# EAGLE library part TC1165 (library micro-infineon)
32-Bit Single-Chip MicrocontrollerTriCoreTM Source: TC1165_TC1166_ds_v02.pdf
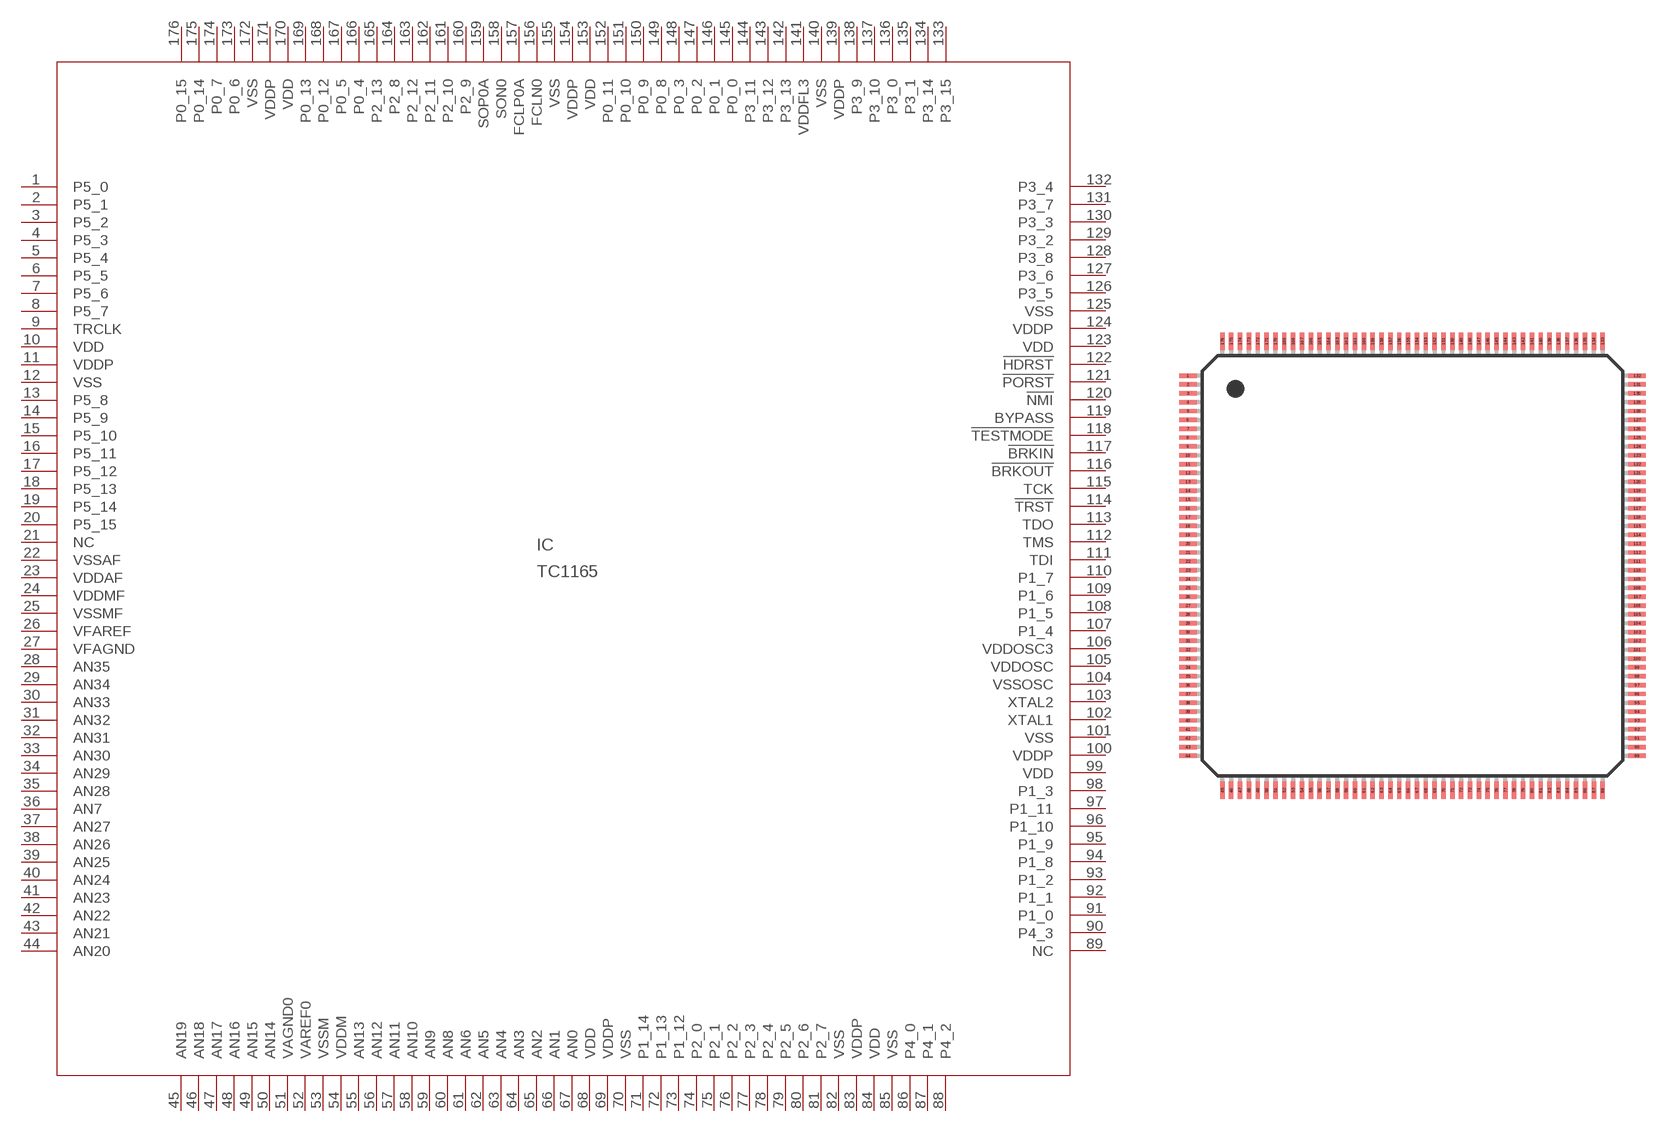
[diagram p0: symbol with the pads of PG-LQFP-176-2; footprint PG-LQFP-176-2]

Designator prefix IC

## TC1165  [PG-LQFP-176-2]
1  P5_0
2  P5_1
3  P5_2
4  P5_3
5  P5_4
6  P5_5
7  P5_6
8  P5_7
9  TRCLK  out
10  VDD  pwr
11  VDDP  pwr
12  VSS  pwr
13  P5_8
14  P5_9
15  P5_10
16  P5_11
17  P5_12
18  P5_13
19  P5_14
20  P5_15
21  NC  nc
22  VSSAF  pwr
23  VDDAF  pwr
24  VDDMF  pwr
25  VSSMF  pwr
26  VFAREF  pwr
27  VFAGND  pwr
28  AN35  in
29  AN34  in
30  AN33  in
31  AN32  in
32  AN31  in
33  AN30  in
34  AN29  in
35  AN28  in
36  AN7  in
37  AN27  in
38  AN26  in
39  AN25  in
40  AN24  in
41  AN23  in
42  AN22  in
43  AN21  in
44  AN20  in
45  AN19  in
46  AN18  in
47  AN17  in
48  AN16  in
49  AN15  in
50  AN14  in
51  VAGND0  pwr
52  VAREF0  pwr
53  VSSM  pwr
54  VDDM  pwr
55  AN13  in
56  AN12  in
57  AN11  in
58  AN10  in
59  AN9  in
60  AN8  in
61  AN6  in
62  AN5  in
63  AN4  in
64  AN3  in
65  AN2  in
66  AN1  in
67  AN0  in
68  VDD  pwr
69  VDDP  pwr
70  VSS  pwr
71  P1_14
72  P1_13
73  P1_12
74  P2_0
75  P2_1
76  P2_2
77  P2_3
78  P2_4
79  P2_5
80  P2_6
81  P2_7
82  VSS  pwr
83  VDDP  pwr
84  VDD  pwr
85  VSS  pwr
86  P4_0
87  P4_1
88  P4_2
89  NC  nc
90  P4_3
91  P1_0
92  P1_1
93  P1_2
94  P1_8
95  P1_9
96  P1_10
97  P1_11
98  P1_3
99  VDD  pwr
100  VDDP  pwr
101  VSS  pwr
102  XTAL1  in
103  XTAL2  out
104  VSSOSC  pwr
105  VDDOSC  pwr
106  VDDOSC3  pwr
107  P1_4
108  P1_5
109  P1_6
110  P1_7
111  TDI  in
112  TMS  in
113  TDO  out
114  !TRST  in
115  TCK  in
116  !BRKOUT
117  !BRKIN
118  !TESTMODE  in
119  BYPASS  in
120  !NMI  in
121  !PORST  in
122  !HDRST
123  VDD  pwr
124  VDDP  pwr
125  VSS  pwr
126  P3_5
127  P3_6
128  P3_8
129  P3_2
130  P3_3
131  P3_7
132  P3_4
133  P3_15
134  P3_14
135  P3_1
136  P3_0
137  P3_10
138  P3_9
139  VDDP  pwr
140  VSS  pwr
141  VDDFL3  pwr
142  P3_13
143  P3_12
144  P3_11
145  P0_0
146  P0_1
147  P0_2
148  P0_3
149  P0_8
150  P0_9
151  P0_10
152  P0_11
153  VDD  pwr
154  VDDP  pwr
155  VSS  pwr
156  FCLN0  out
157  FCLP0A  out
158  SON0  out
159  SOP0A  out
160  P2_9
161  P2_10
162  P2_11
163  P2_12
164  P2_8
165  P2_13
166  P0_4
167  P0_5
168  P0_12
169  P0_13
170  VDD  pwr
171  VDDP  pwr
172  VSS  pwr
173  P0_6
174  P0_7
175  P0_14
176  P0_15

## Footprint PG-LQFP-176-2 (pad centres in mm)
PG-LQFP-176-2 Auto generated by make-symbol-device-package-bsdl.ulp Rev. 20 Source: TC1165_TC1166_ds_v02.pdf
smd 1 x 0.25: 1 -12.7,10.75; 2 -12.7,10.25; 3 -12.7,9.75; 4 -12.7,9.25; 5 -12.7,8.75; 6 -12.7,8.25; 7 -12.7,7.75; 8 -12.7,7.25; 9 -12.7,6.75; 10 -12.7,6.25; 11 -12.7,5.75; 12 -12.7,5.25; 13 -12.7,4.75; 14 -12.7,4.25; 15 -12.7,3.75; 16 -12.7,3.25; 17 -12.7,2.75; 18 -12.7,2.25; 19 -12.7,1.75; 20 -12.7,1.25; 21 -12.7,0.75; 22 -12.7,0.25; 23 -12.7,-0.25; 24 -12.7,-0.75; 25 -12.7,-1.25; 26 -12.7,-1.75; 27 -12.7,-2.25; 28 -12.7,-2.75; 29 -12.7,-3.25; 30 -12.7,-3.75; 31 -12.7,-4.25; 32 -12.7,-4.75; 33 -12.7,-5.25; 34 -12.7,-5.75; 35 -12.7,-6.25; 36 -12.7,-6.75; 37 -12.7,-7.25; 38 -12.7,-7.75; 39 -12.7,-8.25; 40 -12.7,-8.75; 41 -12.7,-9.25; 42 -12.7,-9.75; 43 -12.7,-10.25; 44 -12.7,-10.75; 89 12.7,-10.75; 90 12.7,-10.25; 91 12.7,-9.75; 92 12.7,-9.25; 93 12.7,-8.75; 94 12.7,-8.25; 95 12.7,-7.75; 96 12.7,-7.25; 97 12.7,-6.75; 98 12.7,-6.25; 99 12.7,-5.75; 100 12.7,-5.25; 101 12.7,-4.75; 102 12.7,-4.25; 103 12.7,-3.75; 104 12.7,-3.25; 105 12.7,-2.75; 106 12.7,-2.25; 107 12.7,-1.75; 108 12.7,-1.25; 109 12.7,-0.75; 110 12.7,-0.25; 111 12.7,0.25; 112 12.7,0.75; 113 12.7,1.25; 114 12.7,1.75; 115 12.7,2.25; 116 12.7,2.75; 117 12.7,3.25; 118 12.7,3.75; 119 12.7,4.25; 120 12.7,4.75; 121 12.7,5.25; 122 12.7,5.75; 123 12.7,6.25; 124 12.7,6.75; 125 12.7,7.25; 126 12.7,7.75; 127 12.7,8.25; 128 12.7,8.75; 129 12.7,9.25; 130 12.7,9.75; 131 12.7,10.25; 132 12.7,10.75
smd 0.25 x 1: 45 -10.75,-12.7; 46 -10.25,-12.7; 47 -9.75,-12.7; 48 -9.25,-12.7; 49 -8.75,-12.7; 50 -8.25,-12.7; 51 -7.75,-12.7; 52 -7.25,-12.7; 53 -6.75,-12.7; 54 -6.25,-12.7; 55 -5.75,-12.7; 56 -5.25,-12.7; 57 -4.75,-12.7; 58 -4.25,-12.7; 59 -3.75,-12.7; 60 -3.25,-12.7; 61 -2.75,-12.7; 62 -2.25,-12.7; 63 -1.75,-12.7; 64 -1.25,-12.7; 65 -0.75,-12.7; 66 -0.25,-12.7; 67 0.25,-12.7; 68 0.75,-12.7; 69 1.25,-12.7; 70 1.75,-12.7; 71 2.25,-12.7; 72 2.75,-12.7; 73 3.25,-12.7; 74 3.75,-12.7; 75 4.25,-12.7; 76 4.75,-12.7; 77 5.25,-12.7; 78 5.75,-12.7; 79 6.25,-12.7; 80 6.75,-12.7; 81 7.25,-12.7; 82 7.75,-12.7; 83 8.25,-12.7; 84 8.75,-12.7; 85 9.25,-12.7; 86 9.75,-12.7; 87 10.25,-12.7; 88 10.75,-12.7; 133 10.75,12.7; 134 10.25,12.7; 135 9.75,12.7; 136 9.25,12.7; 137 8.75,12.7; 138 8.25,12.7; 139 7.75,12.7; 140 7.25,12.7; 141 6.75,12.7; 142 6.25,12.7; 143 5.75,12.7; 144 5.25,12.7; 145 4.75,12.7; 146 4.25,12.7; 147 3.75,12.7; 148 3.25,12.7; 149 2.75,12.7; 150 2.25,12.7; 151 1.75,12.7; 152 1.25,12.7; 153 0.75,12.7; 154 0.25,12.7; 155 -0.25,12.7; 156 -0.75,12.7; 157 -1.25,12.7; 158 -1.75,12.7; 159 -2.25,12.7; 160 -2.75,12.7; 161 -3.25,12.7; 162 -3.75,12.7; 163 -4.25,12.7; 164 -4.75,12.7; 165 -5.25,12.7; 166 -5.75,12.7; 167 -6.25,12.7; 168 -6.75,12.7; 169 -7.25,12.7; 170 -7.75,12.7; 171 -8.25,12.7; 172 -8.75,12.7; 173 -9.25,12.7; 174 -9.75,12.7; 175 -10.25,12.7; 176 -10.75,12.7